# EAGLE library part HT600 (library #PaJa_30)
IO pro DO - prijimac
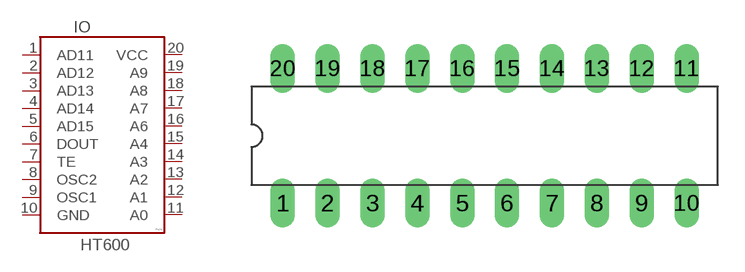
[diagram p50: symbol with the pads of DIL20; footprint DIL20]

Designator prefix IO

## HT600  [DIL20]
1  AD11  pas
2  AD12  pas
3  AD13  pas
4  AD14  pas
5  AD15  pas
6  DOUT  pas
7  TE  pas
8  OSC2  pas
9  OSC1  pas
10  GND  pwr
11  A0  pas
12  A1  pas
13  A2  pas
14  A3  pas
15  A4  pas
16  A6  pas
17  A7  pas
18  A8  pas
19  A9  pas
20  VCC  pwr

## Footprint DIL20 (pad centres in mm)
drill 0.813 pad 1.4 long: 1 -11.43,-3.81; 2 -8.89,-3.81; 3 -6.35,-3.81; 4 -3.81,-3.81; 5 -1.27,-3.81; 6 1.27,-3.81; 7 3.81,-3.81; 8 6.35,-3.81; 9 8.89,-3.81; 10 11.43,-3.81; 11 11.43,3.81; 12 8.89,3.81; 13 6.35,3.81; 14 3.81,3.81; 15 1.27,3.81; 16 -1.27,3.81; 17 -3.81,3.81; 18 -6.35,3.81; 19 -8.89,3.81; 20 -11.43,3.81